# Altium schematic symbol library BLM21PG600SN1D.SchLib: 1 symbol
Pins are listed as number, name and electrical type; pins without a type are passive.

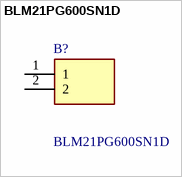
[diagram p0: symbol BLM21PG600SN1D]

## BLM21PG600SN1D
designator B?
Murata Ferrite Bead (Chip Ferrite Bead), 2 x 1.25 x 0.85mm (805), 60 impedance at 100 MHz; Manufacturer_Name: Murata Electronics; Geometry.Height: 1.05mm; Mouser Part Number: 81-BLM21P600S; Mouser Price/Stock: https://www.mouser.co.uk/ProductDetail/Murata-Electronics/BLM21PG600SN1D?qs=LbqjZSvnDswFXSg06XQ50A%3D%3D; Manufacturer_Part_Number: BLM21PG600SN1D; Datasheet Link: https://www.murata.com/en-us/products/productdetail?partno=BLM21PG600SN1%23
footprint BLM21AG102BH1J
pins: 1, 2